# Altium footprint library DIP.PcbLib: 1 footprints
Each footprint in its own frame and in the unit in brackets; x right, y up, seen from the top. Pads: shape width x height; smd on the part's side, far side on the other; paste and mask are expansions set on the pad; w line width, h text height; cw(c..) or ccw(c..) is an arc to the next point about the centre after c.
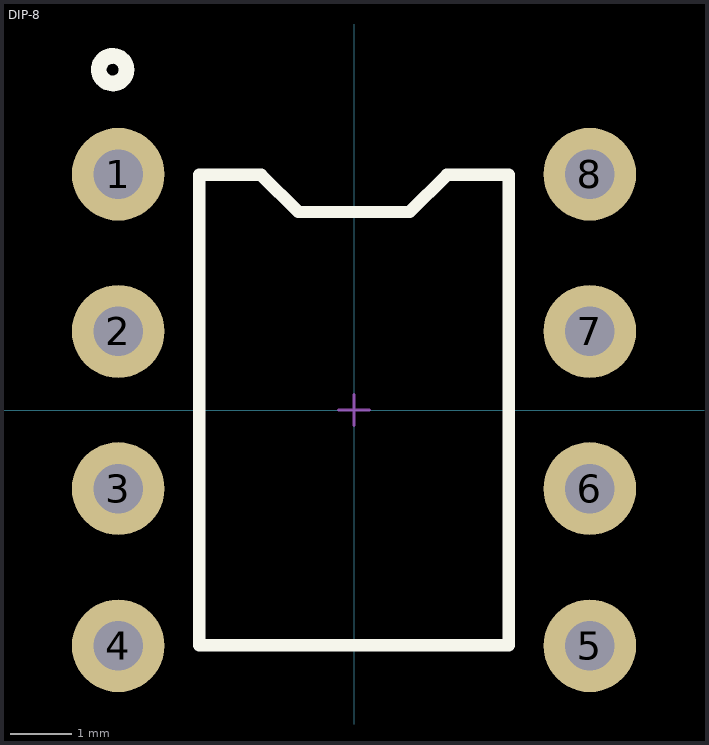
[diagram p0: the footprint, top view; thin cyan lines are the x and y axes]

## DIP-8 [mm]
pads (8):
  round 1.5 hole 0.8: 1(-3.81,3.81) 2(-3.81,1.27) 3(-3.81,-1.27) 4(-3.81,-3.81) 5(3.81,-3.81) 6(3.81,-1.27) 7(3.81,1.27) 8(3.81,3.81)
Top Overlay:
  circle w0.254: c-3.9,5.5 r0.224
  lines w0.2: -2.5,-3.8 -2.5,3.8 -1.5,3.8 -0.9,3.2 0.9,3.2 1.5,3.8 2.5,3.8 2.5,-3.8 -2.5,-3.8
Mechanical 15:
  lines w0.05: -0.25,0 0.25,0 ; 0,-0.25 0,0.25
3D body "file_recolor.stp": height 3.68, standoff -3.3, extent -3.937,-4.635 3.937,4.635